# Altium footprint library CORBI_R0.PcbLib: 13 footprints
Each footprint in its own frame and in the unit in brackets; x right, y up, seen from the top. Pads: shape width x height; smd on the part's side, far side on the other; paste and mask are expansions set on the pad; w line width, h text height; cw(c..) or ccw(c..) is an arc to the next point about the centre after c.
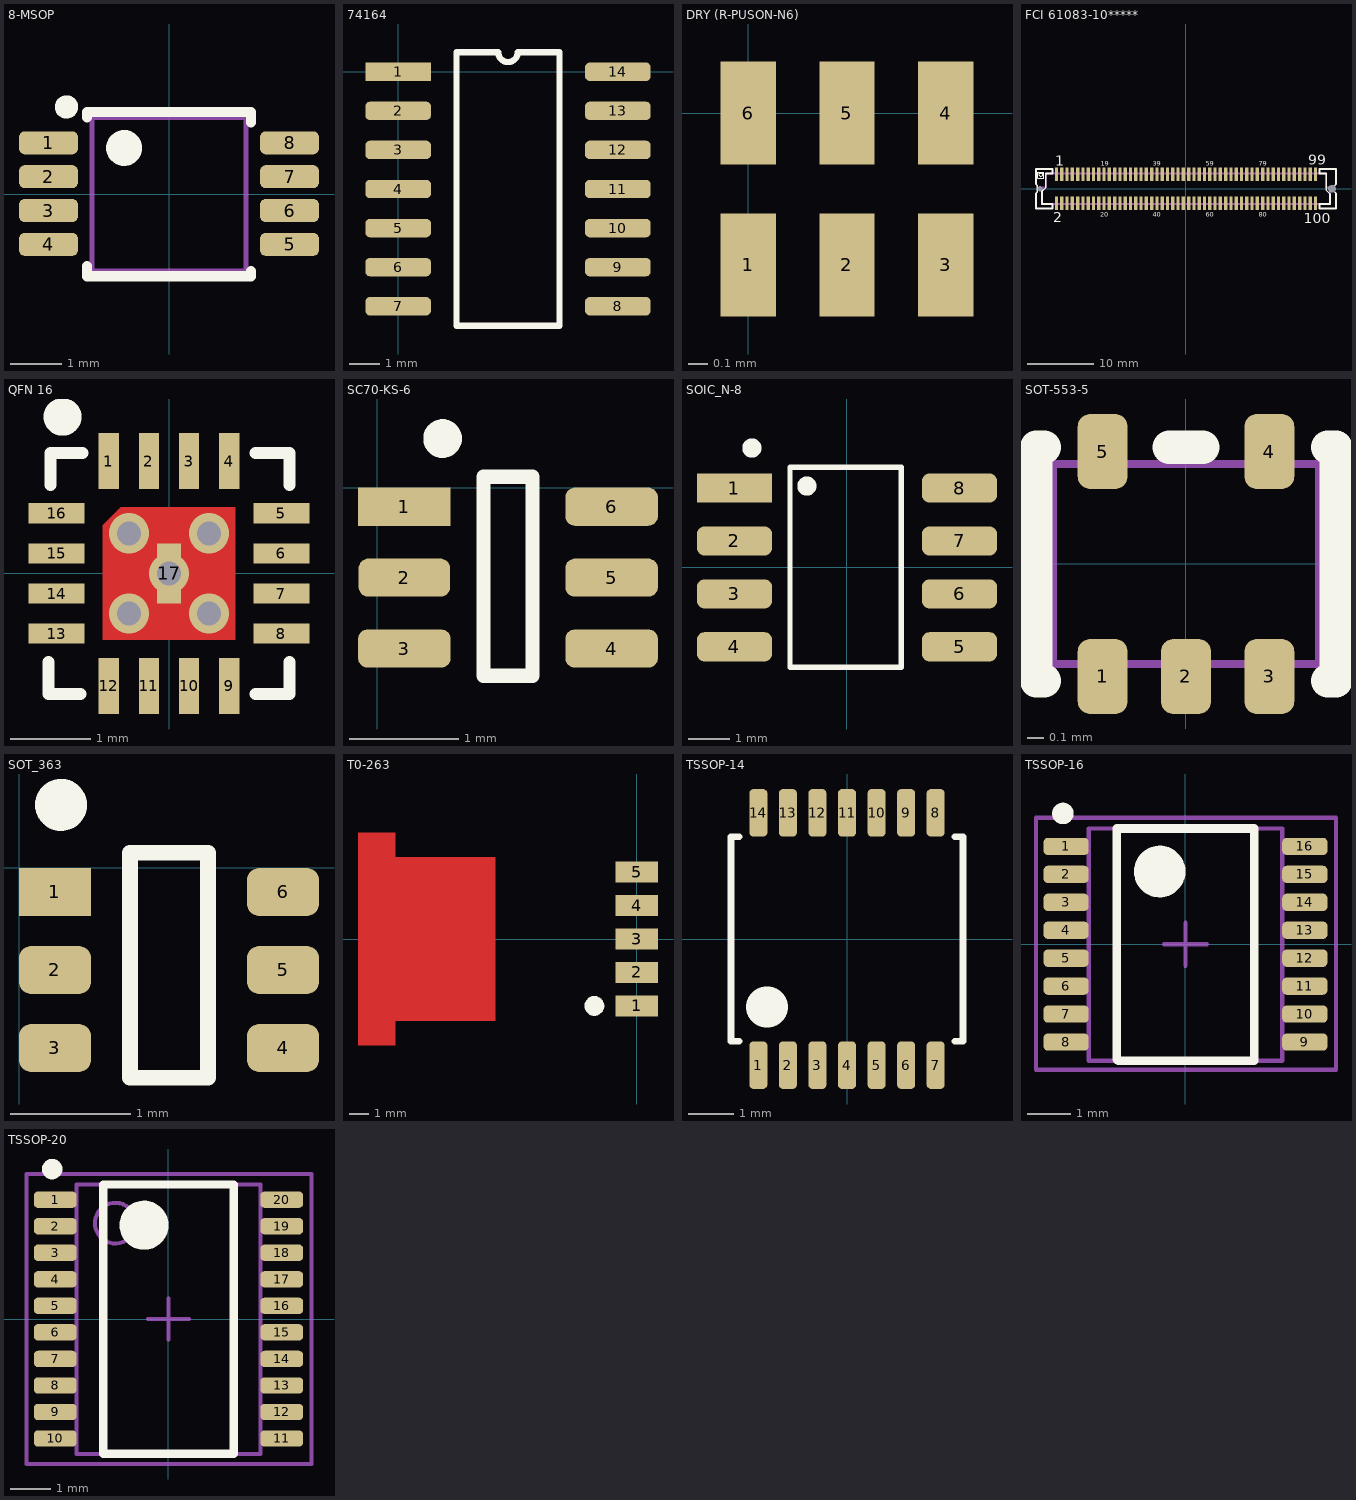
[diagram p0: the footprints below, top view; thin cyan lines are the x and y axes]

## 8-MSOP [mm]
pads (8):
  rrect50% 1.15x0.45 smd: 1(-2.35,1) 2(-2.35,0.34) 3(-2.35,-0.32) 4(-2.35,-0.98) 5(2.35,-0.98) 6(2.35,-0.32) 7(2.35,0.34) 8(2.35,1)
Top Overlay:
  circle w0.254: c-2,1.7 r0.1
  circle w0.35: c-0.875,0.9 r0.175
  lines w0.2: -1.6,-1.4 -1.6,-1.6 1.6,-1.6 1.6,-1.5 ; -1.6,1.5 -1.6,1.6 1.6,1.6 1.6,1.4
Mechanical 13:
  lines w0.1: -1.5,-1.5 1.5,-1.5 1.5,1.5 -1.5,1.5 -1.5,-1.5
3D body: height 1, standoff 0, extent -1.499,-1.499 1.499,1.499

## 74164 [mm] "8 Bit serial in-parallel out shift register"
pads (14):
  rect 2.13x0.6 smd: 1(0,0)
  rrect50% 2.13x0.6 smd: 2(0,-1.27) 3(0,-2.54) 4(0,-3.81) 5(0,-5.08) 6(0,-6.35) 7(0,-7.62) 8(7.14,-7.62) 9(7.14,-6.35) 10(7.14,-5.08) 11(7.14,-3.81) 12(7.14,-2.54) 13(7.14,-1.27) 14(7.14,0)
Top Overlay:
  lines w0.2: 1.9,-8.255 1.9,0.635 3.253,0.635 ccw(c3.57,0.635) 3.888,0.635 5.24,0.635 5.24,-8.255 1.9,-8.255

## DRY (R-PUSON-N6) [mm] "TI ESD Protection"
pads (6):
  rect 0.28x0.52 smd: 1(0,-0.77) 2(0.5,-0.77) 3(1,-0.77) 4(1,0) 5(0.5,0) 6(0,0)
3D body: height 1, standoff 0.02, extent -0.225,-0.875 1.225,0.125
3D body: height 1, standoff 0.02, extent -0.225,-0.875 1.225,0.125

## FCI 61083-10***** [mm] "2X50 Header by FCI"
height 5
pads (102):
  round 0 hole 0.8: 0(-22.1,0)
  round 0 hole 1.2: 0(22.1,0)
  rect 0.5x2 smd: 1(-19.6,2.2) 2(-19.6,-2.2) 3(-18.8,2.2) 4(-18.8,-2.2) 5(-18,2.2) 6(-18,-2.2) 7(-17.2,2.2) 8(-17.2,-2.2) 9(-16.4,2.2) 10(-16.4,-2.2) 11(-15.6,2.2) 12(-15.6,-2.2) 13(-14.8,2.2) 14(-14.8,-2.2) 15(-14,2.2) 16(-14,-2.2) 17(-13.2,2.2) 18(-13.2,-2.2) 19(-12.4,2.2) 20(-12.4,-2.2) 21(-11.6,2.2) 22(-11.6,-2.2) 23(-10.8,2.2) 24(-10.8,-2.2) 25(-10,2.2) 26(-10,-2.2) 27(-9.2,2.2) 28(-9.2,-2.2) 29(-8.4,2.2) 30(-8.4,-2.2) 31(-7.6,2.2) 32(-7.6,-2.2) 33(-6.8,2.2) 34(-6.8,-2.2) 35(-6,2.2) 36(-6,-2.2) 37(-5.2,2.2) 38(-5.2,-2.2) 39(-4.4,2.2) 40(-4.4,-2.2) 41(-3.6,2.2) 42(-3.6,-2.2) 43(-2.8,2.2) 44(-2.8,-2.2) 45(-2,2.2) 46(-2,-2.2) 47(-1.2,2.2) 48(-1.2,-2.2) 49(-0.4,2.2) 50(-0.4,-2.2) 51(0.4,2.2) 52(0.4,-2.2) 53(1.2,2.2) 54(1.2,-2.2) 55(2,2.2) 56(2,-2.2) 57(2.8,2.2) 58(2.8,-2.2) 59(3.6,2.2) 60(3.6,-2.2) 61(4.4,2.2) 62(4.4,-2.2) 63(5.2,2.2) 64(5.2,-2.2) 65(6,2.2) 66(6,-2.2) 67(6.8,2.2) 68(6.8,-2.2) 69(7.6,2.2) 70(7.6,-2.2) 71(8.4,2.2) 72(8.4,-2.2) 73(9.2,2.2) 74(9.2,-2.2) 75(10,2.2) 76(10,-2.2) 77(10.8,2.2) 78(10.8,-2.2) 79(11.6,2.2) 80(11.6,-2.2) 81(12.4,2.2) 82(12.4,-2.2) 83(13.2,2.2) 84(13.2,-2.2) 85(14,2.2) 86(14,-2.2) 87(14.8,2.2) 88(14.8,-2.2) 89(15.6,2.2) 90(15.6,-2.2) 91(16.4,2.2) 92(16.4,-2.2) 93(17.2,2.2) 94(17.2,-2.2) 95(18,2.2) 96(18,-2.2) 97(18.8,2.2) 98(18.8,-2.2) 99(19.6,2.2) 100(19.6,-2.2)
Top Overlay:
  lines w0.12: -22.225,2.075 -22.225,2.325 -21.675,2.325 -21.675,2.075 -21.95,1.8 -22.225,2.075
  lines w0.15: -22.4,1.6 -21.5,1.6 -21.5,2.5 -22.4,2.5 -22.4,1.6
  lines w0.25: 22.5,-0.5 22.7,-0.7 22.7,-3 20.2,-3 20.2,-2.3 21.8,-2.3 21.8,-0.8 21.2,-0.2 21.2,0.2 21.2,2.3 20.2,2.3 20.2,3 22.7,3 22.7,0.7 22.5,0.5 ; -22.7,-3 -20.2,-3 -20.2,-2.3 -21.8,-2.3 -21.8,-0.4 -21.2,0.2 -21.2,2.3 -20.2,2.3 -20.2,3 -22.7,3 -22.7,0.7 -22.5,0.5 -22.5,-0.5 -22.7,-0.7 -22.7,-3
  text "1" at -19.8,3.5 h1.52
  text "2" at -20.1,-5.1 h1.52
  text "99" at 18.5,3.6 h1.52
  text "100" at 17.8,-5.2 h1.52
  text "39" at -5,3.5 h0.7
  text "40" at -5,-4.2 h0.7
  text "20" at -13,-4.2 h0.7
  text "19" at -12.9,3.5 h0.7
  text "59" at 3,3.5 h0.7
  text "60" at 3,-4.2 h0.7
  text "80" at 11,-4.2 h0.7
  text "79" at 11,3.5 h0.7
Mechanical 13:
  lines w0.25: -21.2,2.3 21.2,2.3 21.2,0.2 21.8,0.2 21.8,-2.3 -21.8,-2.3 -21.8,0.2 -21.2,0.2 -21.2,2.3 ; -21.2,2.3 -21.2,2.3
3D body: height 4.65, standoff -0.7, extent -22.9,-3 22.9,3

## QFN 16 [mm] "Buck Converter"
height 1
pads (17):
  rect 0.25x0.7 smd mask+0.1: 1(-0.75,1.4) 2(-0.25,1.4) 3(0.25,1.4) 4(0.75,1.4) 9(0.75,-1.4) 10(0.25,-1.4) 11(-0.25,-1.4) 12(-0.75,-1.4)
  rect 0.7x0.25 smd mask+0.1: 5(1.4,0.75) 6(1.4,0.25) 7(1.4,-0.25) 8(1.4,-0.75) 13(-1.4,-0.75) 14(-1.4,-0.25) 15(-1.4,0.25) 16(-1.4,0.75)
  rect 0.3x0.75 smd paste+0 mask+0: 17(0,0)
via 0.5,0.5 diameter 0.5 hole 0.3
via -0.5,0.5 diameter 0.5 hole 0.3
via 0.5,-0.5 diameter 0.5 hole 0.3
via -0.5,-0.5 diameter 0.5 hole 0.3
via 0,0 diameter 0.5 hole 0.3
Top Layer:
  region: -0.825,-0.825 0.825,-0.825 0.825,0.825 -0.6,0.825 -0.7,0.725 -0.825,0.6
Top Overlay:
  circle w0.4: c-1.325,1.95 r0.035
  lines w0.1: -1.5,-1.5 -1.475,-1.525 ; -1.5,1.5 -1.475,1.5 ; -1.475,-1.525 -1.475,-1.525
  lines w0.15: -1.5,-1.1 -1.5,-1.5 -1.1,-1.5 ; -1.475,1.1 -1.475,1.5 -1.075,1.5 ; 1.075,-1.5 1.5,-1.5 1.5,-1.1 ; 1.075,1.5 1.5,1.5 1.5,1.1
3D body: height 1, standoff 0.02, extent -1.5,-1.5 1.5,1.5

## SC70-KS-6 [mm] "12bitm, 1 MSPS, Low Power A/D Converter"
height 1
pads (6):
  rect 0.85x0.35 smd mask+0.1: 1(0.25,-0.175)
  rrect50% 0.84x0.35 smd mask+0.1: 2(0.25,-0.825)
  rrect50% 0.85x0.35 smd mask+0.1: 3(0.25,-1.475) 4(2.15,-1.475) 5(2.15,-0.825) 6(2.15,-0.175)
Top Overlay:
  circle w0.254: c0.6,0.45 r0.05
  lines w0.13: 0.975,-1.725 0.975,0.1 1.425,0.1 1.425,-1.725 0.975,-1.725
3D body: height 1, standoff 0.1, extent 0.575,-1.825 1.825,0.175

## SOIC_N-8 [mm]
height 0.044
pads (8):
  rect 1.8x0.7 smd: 1(-2.7,1.905)
  rrect50% 1.8x0.7 smd: 2(-2.7,0.635) 3(-2.7,-0.635) 4(-2.7,-1.905) 5(2.7,-1.905) 6(2.7,-0.635) 7(2.7,0.635) 8(2.7,1.905)
Top Overlay:
  circle w0.254: c-0.963,1.951 r0.103
  circle w0.254: c-2.284,2.865 r0.103
  lines w0.13: -1.368,-2.395 -1.368,2.405 1.299,2.405 1.299,-2.395 -1.368,-2.395
3D body: height 1.75, standoff 0.15, extent -2,-2.495 2,2.505

## SOT-553-5 [mm] "DRL (R-PDSO-N5)"
height 0.6
pads (5):
  rrect50% 0.3x0.45 smd: 1(-0.5,-0.675) 2(0,-0.675) 3(0.5,-0.675) 4(0.5,0.675) 5(-0.5,0.675)
Top Overlay:
  lines w0.2: -0.85,-0.7 -0.9,-0.7 -0.9,0.7 -0.85,0.7 ; -0.1,0.7 0.1,0.7 ; 0.85,-0.7 0.9,-0.7 0.9,0.7 0.85,0.7
Mechanical 13:
  lines w0.05: -0.8,-0.6 0.8,-0.6 0.8,0.6 -0.8,0.6 -0.8,-0.6
3D body: height 0.6, standoff 0.05, extent -0.799,-0.599 0.799,0.599

## SOT_363 [mm] "Dual Non-Inverting Schmitt Trigger Buffer"
height 1.1
pads (6):
  rect 0.6x0.4 smd: 1(0.3,-0.2)
  rrect50% 0.6x0.4 smd: 2(0.3,-0.85) 3(0.3,-1.5) 4(2.2,-1.5) 5(2.2,-0.85) 6(2.2,-0.2)
Top Overlay:
  circle w0.254: c0.35,0.525 r0.09
  lines w0.13: 0.925,-1.75 0.925,0.125 1.575,0.125 1.575,-1.75 0.925,-1.75
3D body: height 1, standoff 0.02, extent 0.575,-1.925 1.925,0.275

## T0-263 [mil] "LP38842 Linear Regulator"
height 180
pads (5):
  rect 85x42 smd: 1(0,-134) 2(0,-67) 3(0,0) 4(0,67) 5(0,134)
Top Layer:
  region: -283,-164 -283,164 -483,164 -483,213 -558,213 -558,-213 -483,-213 -483,-164
Top Overlay:
  circle w20: c-84.85,-134 r9.85
3D body: height 180, standoff 6, extent -483,-200 -143,200

## TSSOP-14 [mm] "TSSOP 14 Pin Footprint"
height 1.2
pads (14):
  rrect50% 0.4x1.05 smd: 1(-1.95,-2.775) 2(-1.3,-2.775) 3(-0.65,-2.775) 4(0,-2.775) 5(0.65,-2.775) 6(1.3,-2.775) 7(1.95,-2.775) 8(1.95,2.775) 9(1.3,2.775) 10(0.65,2.775) 11(0,2.775) 12(-0.65,2.775) 13(-1.3,2.775) 14(-1.95,2.775)
Top Overlay:
  lines w0.15: -2.375,-2.25 -2.55,-2.25 -2.55,2.25 -2.375,2.25 ; 2.375,-2.25 2.55,-2.25 2.55,2.25 2.375,2.25
  lines w0.9: -1.775,-1.5 -1.75,-1.5
3D body: height 1.2, standoff 0.25, extent -2.5,-2.2 2.5,2.2

## TSSOP-16 [mm]
height 35
pads (16):
  rrect50% 1.05x0.4 smd: 1(-2.775,2.275) 2(-2.775,1.625) 3(-2.775,0.975) 4(-2.775,0.325) 5(-2.775,-0.325) 6(-2.775,-0.975) 7(-2.775,-1.625) 8(-2.775,-2.275) 9(2.775,-2.275) 10(2.775,-1.625) 11(2.775,-0.975) 12(2.775,-0.325) 13(2.775,0.325) 14(2.775,0.975) 15(2.775,1.625) 16(2.775,2.275)
Top Overlay:
  circle w0.25: c-2.85,3.04 r0.125
  circle w0.6: c-0.6,1.69 r0.3
  lines w0.2: -1.6,2.65 -1.6,-2.675 -1.565,-2.71 1.6,-2.71 1.6,2.69 -1.6,2.69
Mechanical 13:
  lines w0.1: -2.25,2.65 -2.25,-2.71 2.25,-2.71 2.25,2.69 -2.25,2.69
Mechanical 15:
  lines w0.1: -0.5,0 0.5,0 ; 0,-0.5 0,0.5 ; 3.48,-2.921 -3.475,-2.921 -3.475,2.94 3.5,2.94 3.5,-2.921
3D body: height 1.2, standoff 0.15, extent -2.261,-2.718 2.25,2.69

## TSSOP-20 [mm] "12 Bit- Multiplying DAC with parallel interface"
height 1.2
pads (20):
  rrect50% 1.05x0.4 smd: 1(-2.775,2.925) 2(-2.775,2.275) 3(-2.775,1.625) 4(-2.775,0.975) 5(-2.775,0.325) 6(-2.775,-0.325) 7(-2.775,-0.975) 8(-2.775,-1.625) 9(-2.775,-2.275) 10(-2.775,-2.925) 11(2.775,-2.925) 12(2.775,-2.275) 13(2.775,-1.625) 14(2.775,-0.975) 15(2.775,-0.325) 16(2.775,0.325) 17(2.775,0.975) 18(2.775,1.625) 19(2.775,2.275) 20(2.775,2.925)
Top Overlay:
  circle w0.6: c-0.6,2.3 r0.3
  circle w0.25: c-2.85,3.675 r0.125
  lines w0.2: -1.6,-3.3 1.6,-3.3 1.6,3.3 -1.6,3.3 -1.6,-3.3
Mechanical 13:
  circle w0.1: c-1.3,2.35 r0.5
  lines w0.1: -2.25,-3.3 2.25,-3.3 2.25,3.3 -2.25,3.3 -2.25,-3.3
Mechanical 15:
  lines w0.1: -0.5,0 0.5,0 ; 0,-0.5 0,0.5 ; -3.475,-3.55 3.5,-3.55 3.5,3.55 -3.475,3.55 -3.475,-3.55
3D body: height 1.2, standoff 0.15, extent -2.25,-3.3 2.25,3.3